# Altium footprint library Components - klemmnik.PcbLib: 1 footprints
Each footprint in its own frame and in the unit in brackets; x right, y up, seen from the top. Pads: shape width x height; smd on the part's side, far side on the other; paste and mask are expansions set on the pad; w line width, h text height; cw(c..) or ccw(c..) is an arc to the next point about the centre after c.
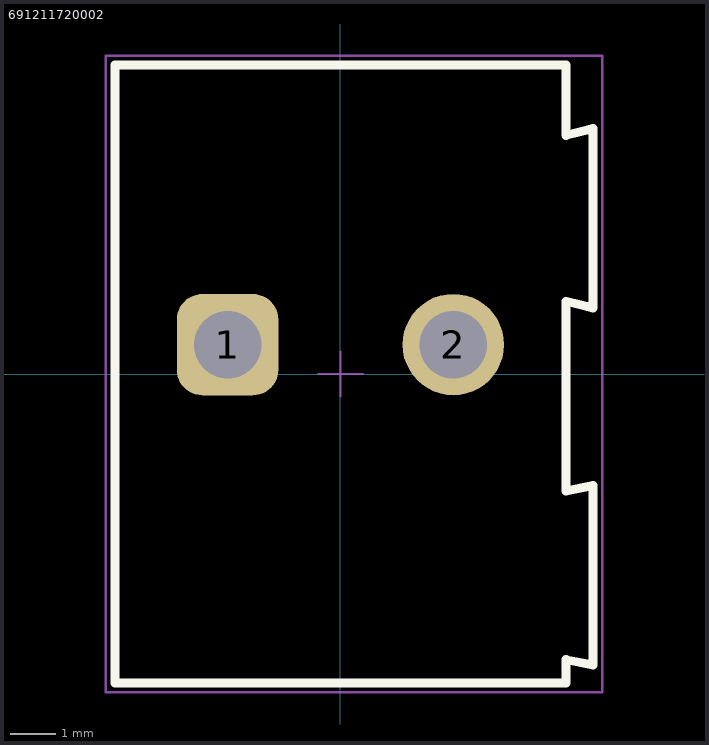
[diagram p0: the footprint, top view; thin cyan lines are the x and y axes]

## 691211720002 [mm] "5,00mm - modular - green -45Ўг entry with rising cage clamp - 02p"
height 15.5
pads (2):
  rrect50% 2.25x2.25 hole 1.5: 1(-2.5,0.65)
  round 2.25 hole 1.5: 2(2.5,0.65)
Top Overlay:
  lines w0.2: -5,-6.85 5,-6.85 5,-6.33 5.6,-6.45 5.6,-2.47 5,-2.59 5,1.61 5.6,1.46 5.6,5.44 5,5.29 5,6.85 -5,6.85 -5,-6.85
Top Designator:
  text ".Designator" at -7.498,-0.5 h1.5
Top Component Outline:
  lines w0.1: -5,-6.85 -5,6.85 5,6.85 5,5.29 5.6,5.44 5.6,1.46 5,1.61 5,-2.59 5.6,-2.47 5.6,-6.45 5,-6.33 5,-6.85 -5,-6.85
Top 3D Body:
  lines w0.1: -5,-6.85 5,-6.85 5,-6.33 5.6,-6.45 5.6,-2.47 5,-2.59 5,1.61 5.6,1.46 5.6,5.44 5,5.29 5,6.85 -5,6.85 -5,-6.85
Top Courtyard:
  lines w0.05: -5.2,-7.05 -5.2,7.05 5.8,7.05 5.8,-7.05 -5.2,-7.05
Top Component Center:
  lines w0.05: -0.5,0 0.5,0 ; 0,-0.5 0,0.5
3D body "691211720002.stp": height 15.72, standoff -3.38, extent -5,-6.85 5.6,6.85